# EAGLE library part 51C259 (library memory)
MEMORY
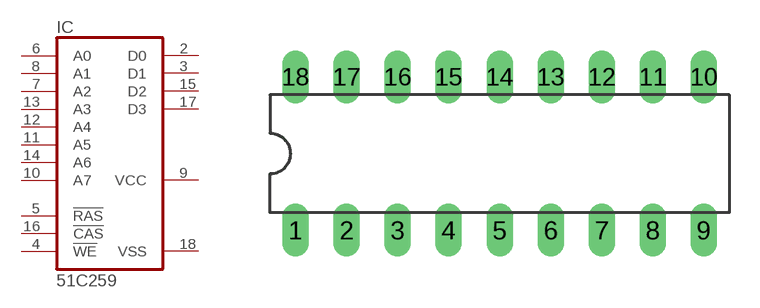
[diagram p6: symbol with the pads of DIL18; footprint DIL18]

Designator prefix IC

## 51C259  [DIL18]
2  D0
3  D1
4  !WE  in
5  !RAS  in
6  A0  in
7  A2  in
8  A1  in
9  VCC  pwr
10  A7  in
11  A5  in
12  A4  in
13  A3  in
14  A6  in
15  D2
16  !CAS  in
17  D3
18  VSS  pwr

## Footprint DIL18 (pad centres in mm)
Dual In Line Package
drill 0.813 long: 1 -10.16,-3.81; 2 -7.62,-3.81; 3 -5.08,-3.81; 4 -2.54,-3.81; 5 0,-3.81; 6 2.54,-3.81; 7 5.08,-3.81; 8 7.62,-3.81; 9 10.16,-3.81; 10 10.16,3.81; 11 7.62,3.81; 12 5.08,3.81; 13 2.54,3.81; 14 0,3.81; 15 -2.54,3.81; 16 -5.08,3.81; 17 -7.62,3.81; 18 -10.16,3.81